# Altium schematic symbol library 809.SchLib: 1 symbol
Pins are listed as number, name and electrical type; pins without a type are passive.

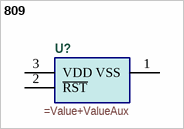
[diagram p0: symbol 809]

## 809
designator U?
=Description
pins: 1 VSS, 2 ~{RST}, 3 VDD